# Altium integrated library ON Semi MOSFETs.IntLib: 1097 symbols (part 8 of 26)
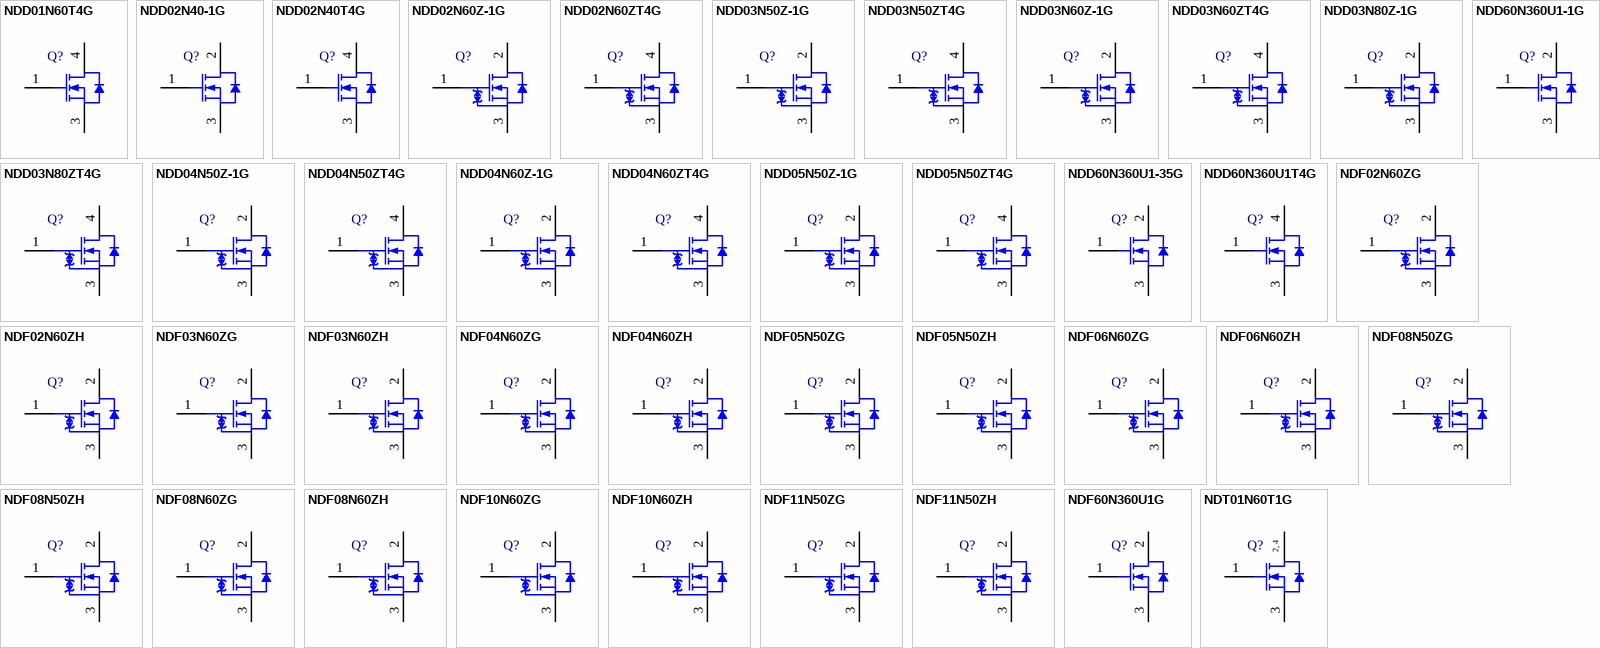
[diagram p38: symbols NDD01N60T4G to NDT01N60T1G]

## NDD03N50ZT4G
designator Q?
N-Channel Power MOSFET, 500 V, 3.3 Ohm, 3-Pin DPAK, Pb-Free, Tape and Reel; Manufacturer: On Semiconductor; PartNumber: NDD03N50ZT4G; Channel Polarity: N Channel; Ciss Typ (pF): 274; Configuration: Single; Coss Typ (pF): 38; Crss Typ (pF): 8; PD Max (W): 58; Qrr Typ (nC): 700; V(BR)DSS Min (V): 500; VGS Max (V): 30; VGS(th) Max (V): 4.5; DatasheetVersion: Rev. 1; PackageVersion: Rev. B, 06/2010; PackageReference: DPAK-3-369AA-01; PackageDescription: 3-Pin Flange Mount, Body 6.54 x 6.095 mm, Pitch 2.29 mm; Package Type: DPAK-3, IPAK-4; Packing: Tape and Reel; RoHS: Pb-Free; Mounting Technology: Surface Mount; ComponentLink1Description: Manufacturer URL; ComponentLink1URL: http://www.onsemi.com/; ComponentLink2Description: Datasheet; ComponentLink2URL: http://www.onsemi.cn/pub_link/Collateral/NDD03N50Z-D.PDF; ComponentLink3Description: Package Specification; ComponentLink3URL: http://www.onsemi.cn/pub_link/Collateral/369AA.PDF
footprint ONSC-DPAK-3-369AA-01_V (DPAK, 3-Leads, Body 6.54x6.095mm, Pitch 2.29mm)
pins: 1 G, 3 S, 4 D

## NDD03N60Z-1G
designator Q?
N-Channel Power MOSFET 600 V, 3.6 Ohm, 3-Pin IPAK, Pb-Free, Tube; Manufacturer: On Semiconductor; PartNumber: NDD03N60Z-1G; Channel Polarity: N Channel; Ciss Typ (pF): 312; Configuration: Single; Coss Typ (pF): 39; Crss Typ (pF): 8; PD Max (W): 61; Qrr Typ (nC): 900; V(BR)DSS Min (V): 600; VGS Max (V): 30; VGS(th) Max (V): 4.5; DatasheetVersion: Rev. 7; PackageVersion: Rev. C, 12/2010; PackageReference: IPAK-3-369D-01; PackageDescription: 3-Pin Flange Mount, Vertical Straight Lead, Body 6.54 x 2.285 mm, Pitch 2.29 mm; Package Type: DPAK-3, IPAK-4; Packing: Tube; RoHS: Pb-Free; Mounting Technology: Through Hole; Code_JEDEC: TO-251; ComponentLink1Description: Manufacturer URL; ComponentLink1URL: http://www.onsemi.com/; ComponentLink2Description: Datasheet; ComponentLink2URL: http://www.onsemi.cn/pub_link/Collateral/NDF03N60Z-D.PDF; ComponentLink3Description: Package Specification; ComponentLink3URL: http://www.onsemi.cn/pub_link/Collateral/369D.PDF
footprint ONSC-IPAK-3-369D-01 (FM, 3-Leads, Body 6.75x2.4mm, Pitch 2.29mm)
pins: 1 G, 2 D, 3 S

## NDD03N60ZT4G
designator Q?
N-Channel Power MOSFET 600 V, 3.6 Ohm, 3-Pin DPAK, Pb-Free, Tape and Reel; Manufacturer: On Semiconductor; PartNumber: NDD03N60ZT4G; Channel Polarity: N Channel; Ciss Typ (pF): 312; Configuration: Single; Coss Typ (pF): 39; Crss Typ (pF): 8; PD Max (W): 61; Qrr Typ (nC): 900; V(BR)DSS Min (V): 600; VGS Max (V): 30; VGS(th) Max (V): 4.5; DatasheetVersion: Rev. 7; PackageVersion: Rev. B, 06/2010; PackageReference: DPAK-3-369AA-01; PackageDescription: 3-Pin Flange Mount, Body 6.54 x 6.095 mm, Pitch 2.29 mm; Package Type: DPAK-3, IPAK-4; Packing: Tape and Reel; RoHS: Pb-Free; Mounting Technology: Surface Mount; ComponentLink1Description: Manufacturer URL; ComponentLink1URL: http://www.onsemi.com/; ComponentLink2Description: Datasheet; ComponentLink2URL: http://www.onsemi.cn/pub_link/Collateral/NDF03N60Z-D.PDF; ComponentLink3Description: Package Specification; ComponentLink3URL: http://www.onsemi.cn/pub_link/Collateral/369AA.PDF
footprint ONSC-DPAK-3-369AA-01_V (DPAK, 3-Leads, Body 6.54x6.095mm, Pitch 2.29mm)
pins: 1 G, 3 S, 4 D

## NDD03N80Z-1G
designator Q?
N-Channel Power MOSFET, 800 V, 4.5 Ohm, 3-Pin IPAK, Pb-Free, Tube; Manufacturer: On Semiconductor; PartNumber: NDD03N80Z-1G; Channel Polarity: N Channel; Ciss Typ (pF): 440; Configuration: Single; Coss Typ (pF): 52; Crss Typ (pF): 9; PD Max (W): 96; Qrr Typ (nC): 1300; V(BR)DSS Min (V): 800; VGS Max (V): 30; VGS(th) Max (V): 4.5; DatasheetVersion: Rev. 1; PackageVersion: Rev. C, 12/2010; PackageReference: IPAK-3-369D-01; PackageDescription: 3-Pin Flange Mount, Vertical Straight Lead, Body 6.54 x 2.285 mm, Pitch 2.29 mm; Package Type: DPAK-3, IPAK-4; Packing: Tube; RoHS: Pb-Free; Mounting Technology: Through Hole; Code_JEDEC: TO-251; ComponentLink1Description: Manufacturer URL; ComponentLink1URL: http://www.onsemi.com/; ComponentLink2Description: Datasheet; ComponentLink2URL: http://www.onsemi.cn/pub_link/Collateral/NDD03N80Z-D.PDF; ComponentLink3Description: Package Specification; ComponentLink3URL: http://www.onsemi.cn/pub_link/Collateral/369D.PDF
footprint ONSC-IPAK-3-369D-01 (FM, 3-Leads, Body 6.75x2.4mm, Pitch 2.29mm)
pins: 1 G, 2 D, 3 S

## NDD03N80ZT4G
designator Q?
N-Channel Power MOSFET, 800 V, 4.5 Ohm, 3-Pin DPAK, Pb-Free, Tape and Reel; Manufacturer: On Semiconductor; PartNumber: NDD03N80ZT4G; Channel Polarity: N Channel; Ciss Typ (pF): 440; Configuration: Single; Coss Typ (pF): 52; Crss Typ (pF): 9; PD Max (W): 96; Qrr Typ (nC): 1300; V(BR)DSS Min (V): 800; VGS Max (V): 30; VGS(th) Max (V): 4.5; DatasheetVersion: Rev. 1; PackageVersion: Rev. B, 06/2010; PackageReference: DPAK-3-369AA-01; PackageDescription: 3-Pin Flange Mount, Body 6.54 x 6.095 mm, Pitch 2.29 mm; Package Type: DPAK-3, IPAK-4; Packing: Tape and Reel; RoHS: Pb-Free; Mounting Technology: Surface Mount; ComponentLink1Description: Manufacturer URL; ComponentLink1URL: http://www.onsemi.com/; ComponentLink2Description: Datasheet; ComponentLink2URL: http://www.onsemi.cn/pub_link/Collateral/NDD03N80Z-D.PDF; ComponentLink3Description: Package Specification; ComponentLink3URL: http://www.onsemi.cn/pub_link/Collateral/369AA.PDF
footprint ONSC-DPAK-3-369AA-01_V (DPAK, 3-Leads, Body 6.54x6.095mm, Pitch 2.29mm)
pins: 1 G, 3 S, 4 D

## NDD04N50Z-1G
designator Q?
N-Channel Power MOSFET, 500 V, 2.7 Ohm, 3-Pin IPAK, Pb-Free, Tube; Manufacturer: On Semiconductor; PartNumber: NDD04N50Z-1G; Channel Polarity: N Channel; Ciss Typ (pF): 308; Configuration: Single; Coss Typ (pF): 43; Crss Typ (pF): 9; PD Max (W): 61; Qrr Typ (nC): 900; V(BR)DSS Min (V): 500; VGS Max (V): 30; VGS(th) Max (V): 4.5; DatasheetVersion: Rev. 1; PackageVersion: Rev. C, 12/2010; PackageReference: IPAK-3-369D-01; PackageDescription: 3-Pin Flange Mount, Vertical Straight Lead, Body 6.54 x 2.285 mm, Pitch 2.29 mm; Package Type: DPAK-3, IPAK-4; Packing: Tube; RoHS: Pb-Free; Mounting Technology: Through Hole; Code_JEDEC: TO-251; ComponentLink1Description: Manufacturer URL; ComponentLink1URL: http://www.onsemi.com/; ComponentLink2Description: Datasheet; ComponentLink2URL: http://www.onsemi.cn/pub_link/Collateral/NDD04N50Z-D.PDF; ComponentLink3Description: Package Specification; ComponentLink3URL: http://www.onsemi.cn/pub_link/Collateral/369D.PDF
footprint ONSC-IPAK-3-369D-01 (FM, 3-Leads, Body 6.75x2.4mm, Pitch 2.29mm)
pins: 1 G, 2 D, 3 S

## NDD04N50ZT4G
designator Q?
N-Channel Power MOSFET, 500 V, 2.7 Ohm, 3-Pin DPAK, Pb-Free, Tape and Reel; Manufacturer: On Semiconductor; PartNumber: NDD04N50ZT4G; Channel Polarity: N Channel; Ciss Typ (pF): 308; Configuration: Single; Coss Typ (pF): 43; Crss Typ (pF): 9; PD Max (W): 61; Qrr Typ (nC): 900; V(BR)DSS Min (V): 500; VGS Max (V): 30; VGS(th) Max (V): 4.5; DatasheetVersion: Rev. 1; PackageVersion: Rev. B, 06/2010; PackageReference: DPAK-3-369AA-01; PackageDescription: 3-Pin Flange Mount, Body 6.54 x 6.095 mm, Pitch 2.29 mm; Package Type: DPAK-3, IPAK-4; Packing: Tape and Reel; RoHS: Pb-Free; Mounting Technology: Surface Mount; ComponentLink1Description: Manufacturer URL; ComponentLink1URL: http://www.onsemi.com/; ComponentLink2Description: Datasheet; ComponentLink2URL: http://www.onsemi.cn/pub_link/Collateral/NDD04N50Z-D.PDF; ComponentLink3Description: Package Specification; ComponentLink3URL: http://www.onsemi.cn/pub_link/Collateral/369AA.PDF
footprint ONSC-DPAK-3-369AA-01_V (DPAK, 3-Leads, Body 6.54x6.095mm, Pitch 2.29mm)
pins: 1 G, 3 S, 4 D

## NDD04N60Z-1G
designator Q?
N-Channel Power MOSFET 600 V, 2.0 Ohm, 3-Pin IPAK, Pb-Free, Tube; Manufacturer: On Semiconductor; PartNumber: NDD04N60Z-1G; Channel Polarity: N Channel; Ciss Typ (pF): 535; Configuration: Single; Coss Typ (pF): 62; Crss Typ (pF): 14; PD Max (W): 83; Qrr Typ (nC): 1300; V(BR)DSS Min (V): 600; VGS Max (V): 30; VGS(th) Max (V): 4.5; DatasheetVersion: Rev. 8; PackageVersion: Rev. C, 12/2010; PackageReference: IPAK-3-369D-01; PackageDescription: 3-Pin Flange Mount, Vertical Straight Lead, Body 6.54 x 2.285 mm, Pitch 2.29 mm; Package Type: DPAK-3, IPAK-4; Packing: Tube; RoHS: Pb-Free; Mounting Technology: Through Hole; Code_JEDEC: TO-251; ComponentLink1Description: Manufacturer URL; ComponentLink1URL: http://www.onsemi.com/; ComponentLink2Description: Datasheet; ComponentLink2URL: http://www.onsemi.cn/pub_link/Collateral/NDF04N60Z-D.PDF; ComponentLink3Description: Package Specification; ComponentLink3URL: http://www.onsemi.cn/pub_link/Collateral/369D.PDF
footprint ONSC-IPAK-3-369D-01 (FM, 3-Leads, Body 6.75x2.4mm, Pitch 2.29mm)
pins: 1 G, 2 D, 3 S

## NDD04N60ZT4G
designator Q?
N-Channel Power MOSFET 600 V, 2.0 Ohm, 3-Pin DPAK, Pb-Free, Tape and Reel; Manufacturer: On Semiconductor; PartNumber: NDD04N60ZT4G; Channel Polarity: N Channel; Ciss Typ (pF): 535; Configuration: Single; Coss Typ (pF): 62; Crss Typ (pF): 14; PD Max (W): 83; Qrr Typ (nC): 1300; V(BR)DSS Min (V): 600; VGS Max (V): 30; VGS(th) Max (V): 4.5; DatasheetVersion: Rev. 8; PackageVersion: Rev. B, 06/2010; PackageReference: DPAK-3-369AA-01; PackageDescription: 3-Pin Flange Mount, Body 6.54 x 6.095 mm, Pitch 2.29 mm; Package Type: DPAK-3, IPAK-4; Packing: Tape and Reel; RoHS: Pb-Free; Mounting Technology: Surface Mount; ComponentLink1Description: Manufacturer URL; ComponentLink1URL: http://www.onsemi.com/; ComponentLink2Description: Datasheet; ComponentLink2URL: http://www.onsemi.cn/pub_link/Collateral/NDF04N60Z-D.PDF; ComponentLink3Description: Package Specification; ComponentLink3URL: http://www.onsemi.cn/pub_link/Collateral/369AA.PDF
footprint ONSC-DPAK-3-369AA-01_V (DPAK, 3-Leads, Body 6.54x6.095mm, Pitch 2.29mm)
pins: 1 G, 3 S, 4 D

## NDD05N50Z-1G
designator Q?
N-Channel Power MOSFET, 500 V, 1.5 Ohm, 3-Pin IPAK, Pb-Free, Tube; Manufacturer: On Semiconductor; PartNumber: NDD05N50Z-1G; Channel Polarity: N Channel; Ciss Typ (pF): 530; Configuration: Single; Coss Typ (pF): 68; Crss Typ (pF): 15; PD Max (W): 83; Qrr Typ (nC): 1250; V(BR)DSS Min (V): 500; VGS Max (V): 30; VGS(th) Max (V): 4.5; DatasheetVersion: Rev. 7; PackageVersion: Rev. C, 12/2010; PackageReference: IPAK-3-369D-01; PackageDescription: 3-Pin Flange Mount, Vertical Straight Lead, Body 6.54 x 2.285 mm, Pitch 2.29 mm; Package Type: DPAK-3, IPAK-4; Packing: Tube; RoHS: Pb-Free; Mounting Technology: Through Hole; Code_JEDEC: TO-251; ComponentLink1Description: Manufacturer URL; ComponentLink1URL: http://www.onsemi.com/; ComponentLink2Description: Datasheet; ComponentLink2URL: http://www.onsemi.cn/pub_link/Collateral/NDF05N50Z-D.PDF; ComponentLink3Description: Package Specification; ComponentLink3URL: http://www.onsemi.cn/pub_link/Collateral/369D.PDF
footprint ONSC-IPAK-3-369D-01 (FM, 3-Leads, Body 6.75x2.4mm, Pitch 2.29mm)
pins: 1 G, 2 D, 3 S

## NDD05N50ZT4G
designator Q?
N-Channel Power MOSFET, 500 V, 1.5 Ohm, 3-Pin DPAK, Pb-Free, Tape and Reel; Manufacturer: On Semiconductor; PartNumber: NDD05N50ZT4G; Channel Polarity: N Channel; Ciss Typ (pF): 530; Configuration: Single; Coss Typ (pF): 68; Crss Typ (pF): 15; PD Max (W): 83; Qrr Typ (nC): 1250; V(BR)DSS Min (V): 500; VGS Max (V): 30; VGS(th) Max (V): 4.5; DatasheetVersion: Rev. 7; PackageVersion: Rev. B, 06/2010; PackageReference: DPAK-3-369AA-01; PackageDescription: 3-Pin Flange Mount, Body 6.54 x 6.095 mm, Pitch 2.29 mm; Package Type: DPAK-3, IPAK-4; Packing: Tape and Reel; RoHS: Pb-Free; Mounting Technology: Surface Mount; ComponentLink1Description: Manufacturer URL; ComponentLink1URL: http://www.onsemi.com/; ComponentLink2Description: Datasheet; ComponentLink2URL: http://www.onsemi.cn/pub_link/Collateral/NDF05N50Z-D.PDF; ComponentLink3Description: Package Specification; ComponentLink3URL: http://www.onsemi.cn/pub_link/Collateral/369AA.PDF
footprint ONSC-DPAK-3-369AA-01_V (DPAK, 3-Leads, Body 6.54x6.095mm, Pitch 2.29mm)
pins: 1 G, 3 S, 4 D

## NDD60N360U1-1G
designator Q?
N-Channel Power MOSFET, 600 V, 360 mOhm, 3-Pin IPAK, Pb-Free, Tube; Manufacturer: On Semiconductor; PartNumber: NDD60N360U1-1G; Channel Polarity: N Channel; Ciss Typ (pF): 790; Configuration: Single; Coss Typ (pF): 47; Crss Typ (pF): 3; PD Max (W): 114; Qrr Typ (nC): 3600; V(BR)DSS Min (V): 600; VGS Max (V): 25; VGS(th) Max (V): 4; DatasheetVersion: Rev. 0; PackageVersion: Rev. C, 12/2010; PackageReference: IPAK-3-369D-01; PackageDescription: 3-Pin Flange Mount, Vertical Straight Lead, Body 6.54 x 2.285 mm, Pitch 2.29 mm; Supplier 1: Newark; Supplier Part Number 1: 97W6245; Supplier 2: Mouser; Supplier Part Number 2: 863-NDD60N360U1-1G; Package Type: DPAK-3, IPAK-3, IPAK-4; Packing: Tube; RoHS: Pb-Free; Mounting Technology: Through Hole; Code_JEDEC: TO-251; ComponentLink1Description: Manufacturer URL; ComponentLink1URL: http://www.onsemi.com/; ComponentLink2Description: Datasheet; ComponentLink2URL: http://www.onsemi.com/pub_link/Collateral/NDF60N360U1-D.PDF; ComponentLink3Description: Package Specification; ComponentLink3URL: http://www.onsemi.cn/pub_link/Collateral/369D.PDF
footprint ONSC-IPAK-3-369D-01 (FM, 3-Leads, Body 6.75x2.4mm, Pitch 2.29mm)
pins: 1 G, 2 D, 3 S

## NDD60N360U1-35G
designator Q?
N-Channel Power MOSFET, 600 V, 360 mOhm, 3-Pin IPAK, Pb-Free, Tube; Manufacturer: On Semiconductor; PartNumber: NDD60N360U1-35G; Channel Polarity: N Channel; Ciss Typ (pF): 790; Configuration: Single; Coss Typ (pF): 47; Crss Typ (pF): 3; PD Max (W): 114; Qrr Typ (nC): 3600; V(BR)DSS Min (V): 600; VGS Max (V): 25; VGS(th) Max (V): 4; DatasheetVersion: Rev. 0; PackageVersion: Rev. B, 04/2013; PackageReference: IPAK-3-369AD; PackageDescription: 3-Pin Flange Mount, Vertical Straight Lead, Body 6.54 x 2.285 mm, Pitch 2.28 mm; Supplier 1: Newark; Supplier Part Number 1: 97W6246; Supplier 2: Mouser; Supplier Part Number 2: 863-NDD60N360U1-35G; Package Type: DPAK-3, IPAK-3, IPAK-4; Packing: Tube; RoHS: Pb-Free; Mounting Technology: Through Hole; ComponentLink1Description: Manufacturer URL; ComponentLink1URL: http://www.onsemi.com/; ComponentLink2Description: Datasheet; ComponentLink2URL: http://www.onsemi.com/pub_link/Collateral/NDF60N360U1-D.PDF; ComponentLink3Description: Package Specification; ComponentLink3URL: http://www.onsemi.cn/pub_link/Collateral/369AD.PDF
footprint ONSC-IPAK-3-369AD (FM, 3-Leads, Body 6.75x2.4mm, Pitch 2.28mm)
pins: 1 G, 2 D, 3 S

## NDD60N360U1T4G
designator Q?
N-Channel Power MOSFET, 600 V, 360 mOhm, 3-Pin DPAK, Pb-Free, Tape and Reel; Manufacturer: On Semiconductor; PartNumber: NDD60N360U1T4G; Channel Polarity: N Channel; Ciss Typ (pF): 790; Configuration: Single; Coss Typ (pF): 47; Crss Typ (pF): 3; PD Max (W): 114; Qrr Typ (nC): 3600; V(BR)DSS Min (V): 600; VGS Max (V): 25; VGS(th) Max (V): 4; DatasheetVersion: Rev. 0; PackageVersion: Rev. E, 02/2014; PackageReference: DPAK-3-369C-01; PackageDescription: 3-Pin Flange Mount, Body 6.54 x 6.095 mm, Pitch 2.29 mm; Supplier 1: Newark; Supplier Part Number 1: 97W6247; Supplier 2: Mouser; Supplier Part Number 2: 863-NDD60N360U1T4G; Package Type: DPAK-3, IPAK-3, IPAK-4; Packing: Tape and Reel; RoHS: Pb-Free; Mounting Technology: Surface Mount; ComponentLink1Description: Manufacturer URL; ComponentLink1URL: http://www.onsemi.com/; ComponentLink2Description: Datasheet; ComponentLink2URL: http://www.onsemi.com/pub_link/Collateral/NDF60N360U1-D.PDF; ComponentLink3Description: Package Specification; ComponentLink3URL: http://www.onsemi.cn/pub_link/Collateral/369C.PDF
footprint ONSC-DPAK-3-369C-01_V (DPAK, 3-Leads, Body 6.54x6.095mm, Pitch 2.29mm)
pins: 1 G, 3 S, 4 D

## NDF02N60ZG
designator Q?
N-Channel Power MOSFET 600 V, 4.8 Ohm, 3-Pin TO-220, Pb-Free, Tube; Manufacturer: On Semiconductor; PartNumber: NDF02N60ZG; Channel Polarity: N Channel; Ciss Typ (pF): 274; Configuration: Single; Coss Typ (pF): 34; Crss Typ (pF): 7; PD Max (W): 24; Qrr Typ (nC): 700; V(BR)DSS Min (V): 600; VGS Max (V): 30; VGS(th) Max (V): 4.5; DatasheetVersion: Rev. 7; PackageVersion: Rev. K, 02/2009; PackageReference: TO-220-3-221D-03; PackageDescription: 3-Pin Flange Mount, Vertical Straight Lead, Body 10.295 x 4.7 mm, Pitch 2.54 mm; Package Type: TO-220 FULLPAK-3; Packing: Tube; RoHS: Pb-Free; Mounting Technology: Through Hole; ComponentLink1Description: Manufacturer URL; ComponentLink1URL: http://www.onsemi.com/; ComponentLink2Description: Datasheet; ComponentLink2URL: http://www.onsemi.cn/pub_link/Collateral/NDF02N60Z-D.PDF; ComponentLink3Description: Package Specification; ComponentLink3URL: http://www.onsemi.com/pub_link/Collateral/221D-03.PDF
footprint ONSC-TO-220-3-221D-03 (FM, 3-Leads, Body 10.65x4.9mm, Pitch 2.54mm)
pins: 1 G, 2 D, 3 S

## NDF02N60ZH
designator Q?
N-Channel Power MOSFET 600 V, 4.8 Ohm, 3-Pin TO-220, Pb-Free, Tube; Manufacturer: On Semiconductor; PartNumber: NDF02N60ZH; Channel Polarity: N Channel; Ciss Typ (pF): 274; Configuration: Single; Coss Typ (pF): 34; Crss Typ (pF): 7; PD Max (W): 24; Qrr Typ (nC): 700; V(BR)DSS Min (V): 600; VGS Max (V): 30; VGS(th) Max (V): 4.5; DatasheetVersion: Rev. 7; PackageVersion: Rev. E, 04/2013; PackageReference: TO-220-3-221AH; PackageDescription: 3-Pin Flange Mount, Vertical Straight Lead, Body 10 x 4.5 mm, Pitch 2.54 mm; Package Type: TO-220 FULLPAK-3; Packing: Tube; RoHS: Pb-Free; Mounting Technology: Through Hole; ComponentLink1Description: Manufacturer URL; ComponentLink1URL: http://www.onsemi.com/; ComponentLink2Description: Datasheet; ComponentLink2URL: http://www.onsemi.cn/pub_link/Collateral/NDF02N60Z-D.PDF; ComponentLink3Description: Package Specification; ComponentLink3URL: http://www.onsemi.com/pub_link/Collateral/221AH.PDF
footprint ONSC-TO-220-3-221AH (FM, 3-Leads, Body 10.3x4.7mm, Pitch 2.54mm)
pins: 1 G, 2 D, 3 S

## NDF03N60ZG
designator Q?
N-Channel Power MOSFET 600 V, 3.6 Ohm, 3-Pin TO-220, Pb-Free, Tube; Manufacturer: On Semiconductor; PartNumber: NDF03N60ZG; Channel Polarity: N Channel; Ciss Typ (pF): 312; Configuration: Single; Coss Typ (pF): 39; Crss Typ (pF): 8; PD Max (W): 27; Qrr Typ (nC): 900; V(BR)DSS Min (V): 600; VGS Max (V): 30; VGS(th) Max (V): 4.5; DatasheetVersion: Rev. 7; PackageVersion: Rev. K, 02/2009; PackageReference: TO-220-3-221D-03; PackageDescription: 3-Pin Flange Mount, Vertical Straight Lead, Body 10.295 x 4.7 mm, Pitch 2.54 mm; Package Type: TO-220 FULLPAK-3; Packing: Tube; RoHS: Pb-Free; Mounting Technology: Through Hole; ComponentLink1Description: Manufacturer URL; ComponentLink1URL: http://www.onsemi.com/; ComponentLink2Description: Datasheet; ComponentLink2URL: http://www.onsemi.cn/pub_link/Collateral/NDF03N60Z-D.PDF; ComponentLink3Description: Package Specification; ComponentLink3URL: http://www.onsemi.com/pub_link/Collateral/221D-03.PDF
footprint ONSC-TO-220-3-221D-03 (FM, 3-Leads, Body 10.65x4.9mm, Pitch 2.54mm)
pins: 1 G, 2 D, 3 S

## NDF03N60ZH
designator Q?
N-Channel Power MOSFET 600 V, 3.6 Ohm, 3-Pin TO-220, Pb-Free, Tube; Manufacturer: On Semiconductor; PartNumber: NDF03N60ZH; Channel Polarity: N Channel; Ciss Typ (pF): 312; Configuration: Single; Coss Typ (pF): 39; Crss Typ (pF): 8; PD Max (W): 27; Qrr Typ (nC): 900; V(BR)DSS Min (V): 600; VGS Max (V): 30; VGS(th) Max (V): 4.5; DatasheetVersion: Rev. 7; PackageVersion: Rev. E, 04/2013; PackageReference: TO-220-3-221AH; PackageDescription: 3-Pin Flange Mount, Vertical Straight Lead, Body 10 x 4.5 mm, Pitch 2.54 mm; Package Type: TO-220 FULLPAK-3; Packing: Tube; RoHS: Pb-Free; Mounting Technology: Through Hole; ComponentLink1Description: Manufacturer URL; ComponentLink1URL: http://www.onsemi.com/; ComponentLink2Description: Datasheet; ComponentLink2URL: http://www.onsemi.cn/pub_link/Collateral/NDF03N60Z-D.PDF; ComponentLink3Description: Package Specification; ComponentLink3URL: http://www.onsemi.com/pub_link/Collateral/221AH.PDF
footprint ONSC-TO-220-3-221AH (FM, 3-Leads, Body 10.3x4.7mm, Pitch 2.54mm)
pins: 1 G, 2 D, 3 S

## NDF04N60ZG
designator Q?
N-Channel Power MOSFET 600 V, 2 Ohm, 3-Pin TO-220, Pb-Free, Tube; Manufacturer: On Semiconductor; PartNumber: NDF04N60ZG; Channel Polarity: N Channel; Ciss Typ (pF): 535; Configuration: Single; Coss Typ (pF): 62; Crss Typ (pF): 14; PD Max (W): 30; Qrr Typ (nC): 1300; V(BR)DSS Min (V): 600; VGS(th) Max (V): 4.5; DatasheetVersion: Rev. 8; PackageVersion: Rev. K, 02/2009; PackageReference: TO-220-3-221D-03; PackageDescription: 3-Pin Flange Mount, Vertical Straight Lead, Body 10.295 x 4.7 mm, Pitch 2.54 mm; Package Type: TO-220 FULLPAK-3; Packing: Tube; RoHS: Pb-Free; VGS Max (V): 30; Mounting Technology: Through Hole; ComponentLink1Description: Manufacturer URL; ComponentLink1URL: http://www.onsemi.com/; ComponentLink2Description: Datasheet; ComponentLink2URL: http://www.onsemi.cn/pub_link/Collateral/NDF04N60Z-D.PDF; ComponentLink3Description: Package Specification; ComponentLink3URL: http://www.onsemi.com/pub_link/Collateral/221D-03.PDF
footprint ONSC-TO-220-3-221D-03 (FM, 3-Leads, Body 10.65x4.9mm, Pitch 2.54mm)
pins: 1 G, 2 D, 3 S

## NDF04N60ZH
designator Q?
N-Channel Power MOSFET 600 V, 2 Ohm, 3-Pin TO-220, Pb-Free, Tube; Manufacturer: On Semiconductor; PartNumber: NDF04N60ZH; Channel Polarity: N Channel; Ciss Typ (pF): 535; Configuration: Single; Coss Typ (pF): 62; Crss Typ (pF): 14; PD Max (W): 30; Qrr Typ (nC): 1300; V(BR)DSS Min (V): 600; VGS(th) Max (V): 4.5; DatasheetVersion: Rev. 8; PackageVersion: Rev. E, 04/2013; PackageReference: TO-220-3-221AH; PackageDescription: 3-Pin Flange Mount, Vertical Straight Lead, Body 10 x 4.5 mm, Pitch 2.54 mm; Package Type: TO-220 FULLPAK-3; Packing: Tube; RoHS: Pb-Free; VGS Max (V): 30; Mounting Technology: Through Hole; ComponentLink1Description: Manufacturer URL; ComponentLink1URL: http://www.onsemi.com/; ComponentLink2Description: Datasheet; ComponentLink2URL: http://www.onsemi.cn/pub_link/Collateral/NDF04N60Z-D.PDF; ComponentLink3Description: Package Specification; ComponentLink3URL: http://www.onsemi.com/pub_link/Collateral/221AH.PDF
footprint ONSC-TO-220-3-221AH (FM, 3-Leads, Body 10.3x4.7mm, Pitch 2.54mm)
pins: 1 G, 2 D, 3 S

## NDF05N50ZG
designator Q?
N-Channel Power MOSFET, 500 V, 1.5 Ohm, 3-Pin TO-220, Pb-Free, Tube; Manufacturer: On Semiconductor; PartNumber: NDF05N50ZG; Channel Polarity: N Channel; Ciss Typ (pF): 530; Configuration: Single; Coss Typ (pF): 68; Crss Typ (pF): 15; PD Max (W): 30; Qrr Typ (nC): 1250; V(BR)DSS Min (V): 500; VGS(th) Max (V): 4.5; DatasheetVersion: Rev. 7; PackageVersion: Rev. K, 02/2009; PackageReference: TO-220-3-221D-03; PackageDescription: 3-Pin Flange Mount, Vertical Straight Lead, Body 10.295 x 4.7 mm, Pitch 2.54 mm; Package Type: TO-220 FULLPAK-3; Packing: Tube; RoHS: Pb-Free; VGS Max (V): 30; Mounting Technology: Through Hole; ComponentLink1Description: Manufacturer URL; ComponentLink1URL: http://www.onsemi.com/; ComponentLink2Description: Datasheet; ComponentLink2URL: http://www.onsemi.cn/pub_link/Collateral/NDF05N50Z-D.PDF; ComponentLink3Description: Package Specification; ComponentLink3URL: http://www.onsemi.com/pub_link/Collateral/221D-03.PDF
footprint ONSC-TO-220-3-221D-03 (FM, 3-Leads, Body 10.65x4.9mm, Pitch 2.54mm)
pins: 1 G, 2 D, 3 S

## NDF05N50ZH
designator Q?
N-Channel Power MOSFET, 500 V, 1.5 Ohm, 3-Pin TO-220, Pb-Free, Tube; Manufacturer: On Semiconductor; PartNumber: NDF05N50ZH; Channel Polarity: N Channel; Ciss Typ (pF): 530; Configuration: Single; Coss Typ (pF): 68; Crss Typ (pF): 15; PD Max (W): 30; Qrr Typ (nC): 1250; V(BR)DSS Min (V): 500; VGS(th) Max (V): 4.5; DatasheetVersion: Rev. 7; PackageVersion: Rev. E, 04/2013; PackageReference: TO-220-3-221AH; PackageDescription: 3-Pin Flange Mount, Vertical Straight Lead, Body 10 x 4.5 mm, Pitch 2.54 mm; Package Type: TO-220 FULLPAK-3; Packing: Tube; RoHS: Pb-Free; VGS Max (V): 30; Mounting Technology: Through Hole; ComponentLink1Description: Manufacturer URL; ComponentLink1URL: http://www.onsemi.com/; ComponentLink2Description: Datasheet; ComponentLink2URL: http://www.onsemi.cn/pub_link/Collateral/NDF05N50Z-D.PDF; ComponentLink3Description: Package Specification; ComponentLink3URL: http://www.onsemi.com/pub_link/Collateral/221AH.PDF
footprint ONSC-TO-220-3-221AH (FM, 3-Leads, Body 10.3x4.7mm, Pitch 2.54mm)
pins: 1 G, 2 D, 3 S

## NDF06N60ZG
designator Q?
N-Channel Power MOSFET 600 V, 1.2 Ohm, 3-Pin TO-220, Pb-Free, Tube; Manufacturer: On Semiconductor; PartNumber: NDF06N60ZG; Channel Polarity: N Channel; Ciss Typ (pF): 923; Configuration: Single; Coss Typ (pF): 106; Crss Typ (pF): 23; PD Max (W): 35; Qrr Typ (nC): 2000; V(BR)DSS Min (V): 600; VGS Max (V): 30; VGS(th) Max (V): 4.5; DatasheetVersion: Rev. 6; PackageVersion: Rev. K, 02/2009; PackageReference: TO-220-3-221D-03; PackageDescription: 3-Pin Flange Mount, Vertical Straight Lead, Body 10.295 x 4.7 mm, Pitch 2.54 mm; Package Type: TO-220 FULLPAK-3; Packing: Tube; RoHS: Pb-Free; Mounting Technology: Through Hole; ComponentLink1Description: Manufacturer URL; ComponentLink1URL: http://www.onsemi.com/; ComponentLink2Description: Datasheet; ComponentLink2URL: http://www.onsemi.cn/pub_link/Collateral/NDF06N60Z-D.PDF; ComponentLink3Description: Package Specification; ComponentLink3URL: http://www.onsemi.com/pub_link/Collateral/221D-03.PDF
footprint ONSC-TO-220-3-221D-03 (FM, 3-Leads, Body 10.65x4.9mm, Pitch 2.54mm)
pins: 1 G, 2 D, 3 S

## NDF06N60ZH
designator Q?
N-Channel Power MOSFET 600 V, 1.2 Ohm, 3-Pin TO-220, Pb-Free, Tube; Manufacturer: On Semiconductor; PartNumber: NDF06N60ZH; Channel Polarity: N Channel; Ciss Typ (pF): 923; Configuration: Single; Coss Typ (pF): 106; Crss Typ (pF): 23; PD Max (W): 35; Qrr Typ (nC): 2000; V(BR)DSS Min (V): 600; VGS Max (V): 30; VGS(th) Max (V): 4.5; DatasheetVersion: Rev. 6; PackageVersion: Rev. E, 04/2013; PackageReference: TO-220-3-221AH; PackageDescription: 3-Pin Flange Mount, Vertical Straight Lead, Body 10 x 4.5 mm, Pitch 2.54 mm; Package Type: TO-220 FULLPAK-3; Packing: Tube; RoHS: Pb-Free; Mounting Technology: Through Hole; ComponentLink1Description: Manufacturer URL; ComponentLink1URL: http://www.onsemi.com/; ComponentLink2Description: Datasheet; ComponentLink2URL: http://www.onsemi.cn/pub_link/Collateral/NDF06N60Z-D.PDF; ComponentLink3Description: Package Specification; ComponentLink3URL: http://www.onsemi.com/pub_link/Collateral/221AH.PDF
footprint ONSC-TO-220-3-221AH (FM, 3-Leads, Body 10.3x4.7mm, Pitch 2.54mm)
pins: 1 G, 2 D, 3 S

## NDF08N50ZG
designator Q?
N-Channel Power MOSFET 500 V, 0.85 Ohm, 3-Pin TO-220, Pb-Free, Tube; Manufacturer: On Semiconductor; PartNumber: NDF08N50ZG; Channel Polarity: N Channel; Ciss Typ (pF): 912; Configuration: Single; Coss Typ (pF): 120; Crss Typ (pF): 27; PD Max (W): 35; Qrr Typ (nC): 1850; V(BR)DSS Min (V): 500; VGS Max (V): 30; VGS(th) Max (V): 4.5; DatasheetVersion: Rev. 5; PackageVersion: Rev. K, 02/2009; PackageReference: TO-220-3-221D-03; PackageDescription: 3-Pin Flange Mount, Vertical Straight Lead, Body 10.295 x 4.7 mm, Pitch 2.54 mm; Package Type: TO-220 FULLPAK-3; Packing: Tube; RoHS: Pb-Free; Mounting Technology: Through Hole; ComponentLink1Description: Manufacturer URL; ComponentLink1URL: http://www.onsemi.com/; ComponentLink2Description: Datasheet; ComponentLink2URL: http://www.onsemi.cn/pub_link/Collateral/NDF08N50Z-D.PDF; ComponentLink3Description: Package Specification; ComponentLink3URL: http://www.onsemi.com/pub_link/Collateral/221D-03.PDF
footprint ONSC-TO-220-3-221D-03 (FM, 3-Leads, Body 10.65x4.9mm, Pitch 2.54mm)
pins: 1 G, 2 D, 3 S

## NDF08N50ZH
designator Q?
N-Channel Power MOSFET 500 V, 0.85 Ohm, 3-Pin TO-220, Pb-Free, Tube; Manufacturer: On Semiconductor; PartNumber: NDF08N50ZH; Channel Polarity: N Channel; Ciss Typ (pF): 912; Configuration: Single; Coss Typ (pF): 120; Crss Typ (pF): 27; PD Max (W): 35; Qrr Typ (nC): 1850; V(BR)DSS Min (V): 500; VGS Max (V): 30; VGS(th) Max (V): 4.5; DatasheetVersion: Rev. 5; PackageVersion: Rev. E, 04/2013; PackageReference: TO-220-3-221AH; PackageDescription: 3-Pin Flange Mount, Vertical Straight Lead, Body 10 x 4.5 mm, Pitch 2.54 mm; Package Type: TO-220 FULLPAK-3; Packing: Tube; RoHS: Pb-Free; Mounting Technology: Through Hole; ComponentLink1Description: Manufacturer URL; ComponentLink1URL: http://www.onsemi.com/; ComponentLink2Description: Datasheet; ComponentLink2URL: http://www.onsemi.cn/pub_link/Collateral/NDF08N50Z-D.PDF; ComponentLink3Description: Package Specification; ComponentLink3URL: http://www.onsemi.com/pub_link/Collateral/221AH.PDF
footprint ONSC-TO-220-3-221AH (FM, 3-Leads, Body 10.3x4.7mm, Pitch 2.54mm)
pins: 1 G, 2 D, 3 S

## NDF08N60ZG
designator Q?
N-Channel Power MOSFET 600 V, 0.95 Ohm, 3-Pin TO-220, Pb-Free, Tube; Manufacturer: On Semiconductor; PartNumber: NDF08N60ZG; Channel Polarity: N Channel; Ciss Typ (pF): 1140; Configuration: Single; Coss Typ (pF): 129; Crss Typ (pF): 30; PD Max (W): 36; Qrr Typ (nC): 2200; V(BR)DSS Min (V): 600; VGS(th) Max (V): 4.5; DatasheetVersion: Rev. 3; PackageVersion: Rev. K, 02/2009; PackageReference: TO-220-3-221D-03; PackageDescription: 3-Pin Flange Mount, Vertical Straight Lead, Body 10.295 x 4.7 mm, Pitch 2.54 mm; Package Type: TO-220 FULLPAK-3; Packing: Tube; RoHS: Pb-Free; VGS Max (V): 30; Mounting Technology: Through Hole; ComponentLink1Description: Manufacturer URL; ComponentLink1URL: http://www.onsemi.com/; ComponentLink2Description: Datasheet; ComponentLink2URL: http://www.onsemi.cn/pub_link/Collateral/NDF08N60Z-D.PDF; ComponentLink3Description: Package Specification; ComponentLink3URL: http://www.onsemi.com/pub_link/Collateral/221D-03.PDF
footprint ONSC-TO-220-3-221D-03 (FM, 3-Leads, Body 10.65x4.9mm, Pitch 2.54mm)
pins: 1 G, 2 D, 3 S

## NDF08N60ZH
designator Q?
N-Channel Power MOSFET 600 V, 0.95 Ohm, 3-Pin TO-220, Pb-Free, Tube; Manufacturer: On Semiconductor; PartNumber: NDF08N60ZH; Channel Polarity: N Channel; Ciss Typ (pF): 1140; Configuration: Single; Coss Typ (pF): 129; Crss Typ (pF): 30; PD Max (W): 36; Qrr Typ (nC): 2200; V(BR)DSS Min (V): 600; VGS(th) Max (V): 4.5; DatasheetVersion: Rev. 3; PackageVersion: Rev. E, 04/2013; PackageReference: TO-220-3-221AH; PackageDescription: 3-Pin Flange Mount, Vertical Straight Lead, Body 10 x 4.5 mm, Pitch 2.54 mm; Package Type: TO-220 FULLPAK-3; Packing: Tube; RoHS: Pb-Free; VGS Max (V): 30; Mounting Technology: Through Hole; ComponentLink1Description: Manufacturer URL; ComponentLink1URL: http://www.onsemi.com/; ComponentLink2Description: Datasheet; ComponentLink2URL: http://www.onsemi.cn/pub_link/Collateral/NDF08N60Z-D.PDF; ComponentLink3Description: Package Specification; ComponentLink3URL: http://www.onsemi.com/pub_link/Collateral/221AH.PDF
footprint ONSC-TO-220-3-221AH (FM, 3-Leads, Body 10.3x4.7mm, Pitch 2.54mm)
pins: 1 G, 2 D, 3 S

## NDF10N60ZG
designator Q?
N-Channel Power MOSFET 600 V, 0.75 Ohm, 3-Pin TO-220, Pb-Free, Tube; Manufacturer: On Semiconductor; PartNumber: NDF10N60ZG; Channel Polarity: N Channel; Ciss Typ (pF): 1373; Configuration: Single; Coss Typ (pF): 150; Crss Typ (pF): 35; PD Max (W): 39; Qrr Typ (nC): 3000; V(BR)DSS Min (V): 600; VGS Max (V): 30; VGS(th) Max (V): 4.5; DatasheetVersion: Rev. 12; PackageVersion: Rev. K, 02/2009; PackageReference: TO-220-3-221D-03; PackageDescription: 3-Pin Flange Mount, Vertical Straight Lead, Body 10.295 x 4.7 mm, Pitch 2.54 mm; Package Type: TO-220 FULLPAK-3; Packing: Tube; RoHS: Pb-Free; Mounting Technology: Through Hole; ComponentLink1Description: Manufacturer URL; ComponentLink1URL: http://www.onsemi.com/; ComponentLink2Description: Datasheet; ComponentLink2URL: http://www.onsemi.cn/pub_link/Collateral/NDF10N60Z-D.PDF; ComponentLink3Description: Package Specification; ComponentLink3URL: http://www.onsemi.com/pub_link/Collateral/221D-03.PDF
footprint ONSC-TO-220-3-221D-03 (FM, 3-Leads, Body 10.65x4.9mm, Pitch 2.54mm)
pins: 1 G, 2 D, 3 S

## NDF10N60ZH
designator Q?
N-Channel Power MOSFET 600 V, 0.75 Ohm, 3-Pin TO-220, Pb-Free, Tube; Manufacturer: On Semiconductor; PartNumber: NDF10N60ZH; Channel Polarity: N Channel; Ciss Typ (pF): 1373; Configuration: Single; Coss Typ (pF): 150; Crss Typ (pF): 35; PD Max (W): 39; Qrr Typ (nC): 3000; V(BR)DSS Min (V): 600; VGS Max (V): 30; VGS(th) Max (V): 4.5; DatasheetVersion: Rev. 12; PackageVersion: Rev. E, 04/2013; PackageReference: TO-220-3-221AH; PackageDescription: 3-Pin Flange Mount, Vertical Straight Lead, Body 10 x 4.5 mm, Pitch 2.54 mm; Package Type: TO-220 FULLPAK-3; Packing: Tube; RoHS: Pb-Free; Mounting Technology: Through Hole; ComponentLink1Description: Manufacturer URL; ComponentLink1URL: http://www.onsemi.com/; ComponentLink2Description: Datasheet; ComponentLink2URL: http://www.onsemi.cn/pub_link/Collateral/NDF10N60Z-D.PDF; ComponentLink3Description: Package Specification; ComponentLink3URL: http://www.onsemi.com/pub_link/Collateral/221AH.PDF
footprint ONSC-TO-220-3-221AH (FM, 3-Leads, Body 10.3x4.7mm, Pitch 2.54mm)
pins: 1 G, 2 D, 3 S

## NDF11N50ZG
designator Q?
N-Channel Power MOSFET 500 V, 0.52 Ohm, 3-Pin TO-220, Pb-Free, Tube; Manufacturer: On Semiconductor; PartNumber: NDF11N50ZG; Channel Polarity: N Channel; Ciss Typ (pF): 1375; Configuration: Single; Coss Typ (pF): 166; Crss Typ (pF): 40; PD Max (W): 39; Qrr Typ (nC): 2500; V(BR)DSS Min (V): 500; VGS Max (V): 30; VGS(th) Max (V): 4.5; DatasheetVersion: Rev. 4; PackageVersion: Rev. K, 02/2009; PackageReference: TO-220-3-221D-03; PackageDescription: 3-Pin Flange Mount, Vertical Straight Lead, Body 10.295 x 4.7 mm, Pitch 2.54 mm; Package Type: TO-220 FULLPAK-3; Packing: Tube; RoHS: Pb-Free; Mounting Technology: Through Hole; ComponentLink1Description: Manufacturer URL; ComponentLink1URL: http://www.onsemi.com/; ComponentLink2Description: Datasheet; ComponentLink2URL: http://www.onsemi.cn/pub_link/Collateral/NDF11N50Z-D.PDF; ComponentLink3Description: Package Specification; ComponentLink3URL: http://www.onsemi.com/pub_link/Collateral/221D-03.PDF
footprint ONSC-TO-220-3-221D-03 (FM, 3-Leads, Body 10.65x4.9mm, Pitch 2.54mm)
pins: 1 G, 2 D, 3 S

## NDF11N50ZH
designator Q?
N-Channel Power MOSFET 500 V, 0.52 Ohm, 3-Pin TO-220, Pb-Free, Tube; Manufacturer: On Semiconductor; PartNumber: NDF11N50ZH; Channel Polarity: N Channel; Ciss Typ (pF): 1375; Configuration: Single; Coss Typ (pF): 166; Crss Typ (pF): 40; PD Max (W): 39; Qrr Typ (nC): 2500; V(BR)DSS Min (V): 500; VGS Max (V): 30; VGS(th) Max (V): 4.5; DatasheetVersion: Rev. 4; PackageVersion: Rev. E, 04/2013; PackageReference: TO-220-3-221AH; PackageDescription: 3-Pin Flange Mount, Vertical Straight Lead, Body 10 x 4.5 mm, Pitch 2.54 mm; Package Type: TO-220 FULLPAK-3; Packing: Tube; RoHS: Pb-Free; Mounting Technology: Through Hole; ComponentLink1Description: Manufacturer URL; ComponentLink1URL: http://www.onsemi.com/; ComponentLink2Description: Datasheet; ComponentLink2URL: http://www.onsemi.cn/pub_link/Collateral/NDF11N50Z-D.PDF; ComponentLink3Description: Package Specification; ComponentLink3URL: http://www.onsemi.com/pub_link/Collateral/221AH.PDF
footprint ONSC-TO-220-3-221AH (FM, 3-Leads, Body 10.3x4.7mm, Pitch 2.54mm)
pins: 1 G, 2 D, 3 S

## NDF60N360U1G
designator Q?
N-Channel Power MOSFET, 600 V, 360 mOhm, 3-Pin TO-220, Pb-Free, Tube; Manufacturer: On Semiconductor; PartNumber: NDF60N360U1G; Channel Polarity: N Channel; Ciss Typ (pF): 790; Configuration: Single; Coss Typ (pF): 47; Crss Typ (pF): 3; PD Max (W): 30; Qrr Typ (nC): 3600; V(BR)DSS Min (V): 600; VGS Max (V): 25; VGS(th) Max (V): 4; DatasheetVersion: Rev. 0; PackageVersion: Rev. E, 04/2013; PackageReference: TO-220-3-221AH; PackageDescription: 3-Pin Flange Mount, Vertical Straight Lead, Body 10 x 4.5 mm, Pitch 2.54 mm; Package Type: DPAK-3, IPAK-3, IPAK-4; Packing: Tube; RoHS: Pb-Free; Mounting Technology: Through Hole; ComponentLink1Description: Manufacturer URL; ComponentLink1URL: http://www.onsemi.com/; ComponentLink2Description: Datasheet; ComponentLink2URL: http://www.onsemi.com/pub_link/Collateral/NDF60N360U1-D.PDF; ComponentLink3Description: Package Specification; ComponentLink3URL: http://www.onsemi.com/pub_link/Collateral/221AH.PDF
footprint ONSC-TO-220-3-221AH (FM, 3-Leads, Body 10.3x4.7mm, Pitch 2.54mm)
pins: 1 G, 2 D, 3 S

## NDT01N60T1G
designator Q?
N-Channel Power MOSFET, 600 V, 8.5 Ohm, 4-Pin SOT-223, Pb-Free, Tape and Reel; Manufacturer: On Semiconductor; PartNumber: NDT01N60T1G; Channel Polarity: N Channel; Ciss Typ (pF): 160; Configuration: Single; Coss Typ (pF): 22; Crss Typ (pF): 4; PD Max (W): 2.5; Qrr Typ (nC): 288; V(BR)DSS Min (V): 600; VGS Max (V): 30; VGS(th) Max (V): 3.7; DatasheetVersion: Rev. 2; PackageVersion: Rev. N, 08/2009; PackageReference: SOT-223-4-318E-04; PackageDescription: 4-Pin Small Outline Transistor, Body 6.5 x 3.5 mm, Pitch 2.3 mm; Package Type: SOT-223-4 / TO-261-4; Packing: Tape and Reel; RoHS: Pb-Free; Mounting Technology: Surface Mount; ComponentLink1Description: Manufacturer URL; ComponentLink1URL: http://www.onsemi.com/; ComponentLink2Description: Datasheet; ComponentLink2URL: http://www.onsemi.cn/pub_link/Collateral/NDD01N60-D.PDF; ComponentLink3Description: Package Specification; ComponentLink3URL: http://www.onsemi.com/pub_link/Collateral/318E-04.PDF
footprint ONSC-SOT-223-4-318E-04_V (SOT223, 4-Leads, Body 6.5x3.5mm, Pitch 2.3mm)
pins: 1 G, 2 D, 3 S, 4 D
text: 2, 4

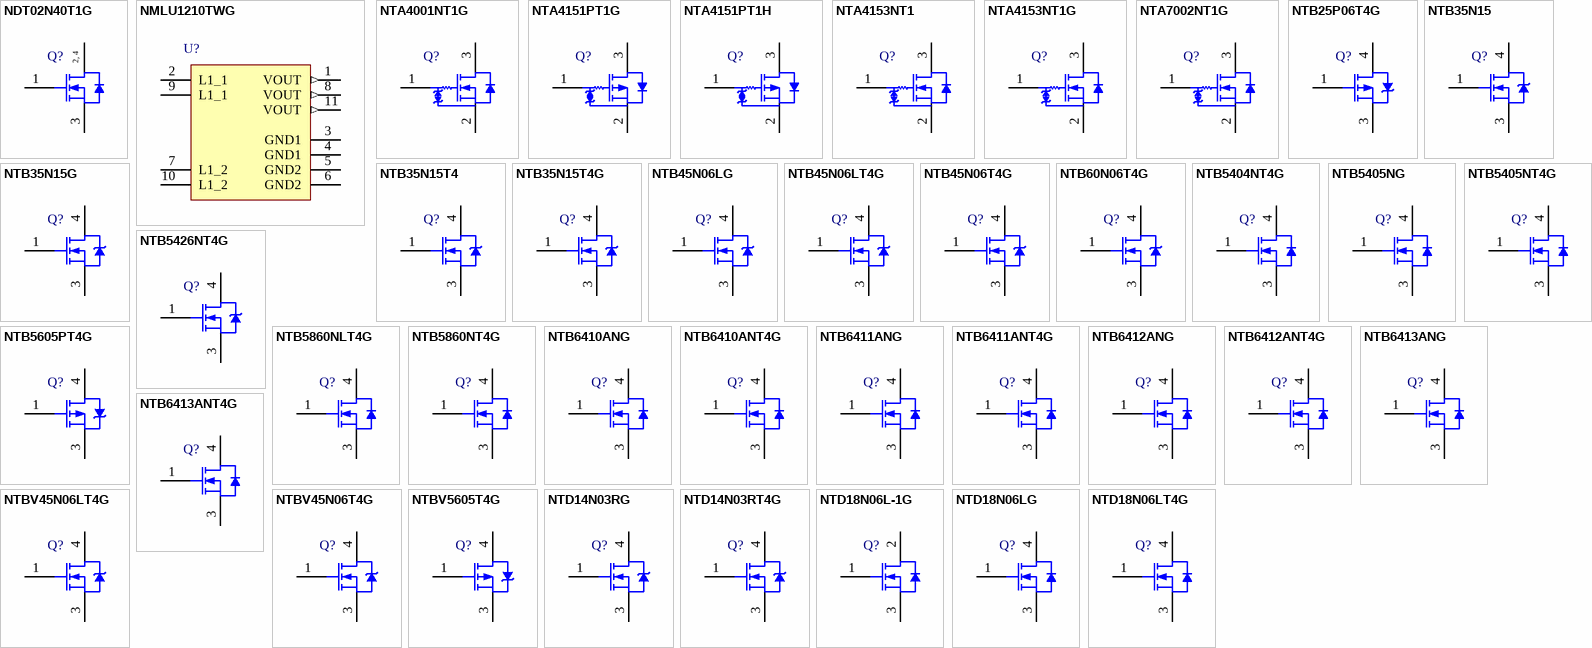
[diagram p9: symbols NDT02N40T1G to NTD18N06LT4G]

## NDT02N40T1G
designator Q?
N-Channel Power MOSFET, 400 V, 5.5 Ohm, 4-Pin SOT-223, Pb-Free, Tape and Reel; Manufacturer: On Semiconductor; PartNumber: NDT02N40T1G; Channel Polarity: N Channel; Ciss Typ (pF): 121; Configuration: Single; Coss Typ (pF): 16; Crss Typ (pF): 3; PD Max (W): 2; Qrr Typ (nC): 260; V(BR)DSS Min (V): 400; VGS Max (V): 20; DatasheetVersion: Rev. 3; PackageVersion: Rev. N, 08/2009; PackageReference: SOT-223-4-318E-04; PackageDescription: 4-Pin Small Outline Transistor, Body 6.5 x 3.5 mm, Pitch 2.3 mm; Supplier 1: Newark; Supplier Part Number 1: 97W6248; Supplier 2: Mouser; Supplier Part Number 2: 863-NDT02N40T1G; Package Type: SOT-223-4 / TO-261-4; Packing: Tape and Reel; RoHS: Pb-Free; VGS(th) Max (V): 2; Mounting Technology: Surface Mount; ComponentLink1Description: Manufacturer URL; ComponentLink1URL: http://www.onsemi.com/; ComponentLink2Description: Datasheet; ComponentLink2URL: http://www.onsemi.com/pub_link/Collateral/NDD02N40-D.PDF; ComponentLink3Description: Package Specification; ComponentLink3URL: http://www.onsemi.com/pub_link/Collateral/318E-04.PDF
footprint ONSC-SOT-223-4-318E-04_V (SOT223, 4-Leads, Body 6.5x3.5mm, Pitch 2.3mm)
pins: 1 G, 2 D, 3 S, 4 D
text: 2, 4

## NMLU1210TWG
designator U?
Full Bridge Rectifier, Dual 20 V N-Channel with Dual 3.2 A Schottky Barrier Diode, 8-Pin UDFN, Pb-Free, Tape and Reel; Manufacturer: On Semiconductor; PartNumber: NMLU1210TWG; Channel Polarity: N Channel; ID Max (A): 3.2; VGS(th) Max (V): 2.2; DatasheetVersion: Rev. 1; PackageVersion: Rev. A, 09/2011; PackageReference: UDFN-8-517BS; PackageDescription: 8-Pin Small Outline No-Lead, Body 4 x 4 mm, Pitch 0.8 mm; Configuration: Dual; Package Type: UDFN-8; Packing: Tape and Reel; RoHS: Pb-Free; Mounting Technology: Surface Mount; ComponentLink1Description: Manufacturer URL; ComponentLink1URL: http://www.onsemi.com/; ComponentLink2Description: Datasheet; ComponentLink2URL: http://www.onsemi.cn/pub_link/Collateral/NMLU1210-D.PDF; ComponentLink3Description: Package Specification; ComponentLink3URL: http://www.onsemi.cn/pub_link/Collateral/517BS.PDF
footprint ONSC-UDFN-8-517BS_V (SON, 8-Leads, Body 4x4mm, Pitch 0.8mm)
pins: 1 VOUT (out), 2 L1_1, 3 GND1 (power), 4 GND1 (power), 5 GND2 (power), 6 GND2 (power), 7 L1_2, 8 VOUT (out), 9 L1_1, 10 L1_2, 11 VOUT (out)

## NTA4001NT1G
designator Q?
Small Signal MOSFET, 20 V, 238 mA, Single, N-Channel, Gate ESD Protection, 3-Pin SC75, Pb-Free, Tape and Reel; Manufacturer: On Semiconductor; PartNumber: NTA4001NT1G; Channel Polarity: N Channel; Ciss Typ (pF): 11.5; Coss Typ (pF): 10; Crss Typ (pF): 3.5; ID Max (A): 0.238; PD Max (W): 0.3; V(BR)DSS Min (V): 20; VGS(th) Max (V): 1.5; DatasheetVersion: Rev. 2; PackageVersion: Rev. F, 07/2005; PackageReference: SC-75-3-463-01; PackageDescription: 3-Pin Small Outline Transistor, Body 1.6 x 0.8 mm, Pitch 0.5 mm; Configuration: Single; Package Type: SC-75-3; Packing: Tape and Reel; RoHS: Pb-Free; VGS Max (V): 10; Mounting Technology: Surface Mount; ComponentLink1Description: Manufacturer URL; ComponentLink1URL: http://www.onsemi.com/; ComponentLink2Description: Datasheet; ComponentLink2URL: http://www.onsemi.cn/pub_link/Collateral/NTA4001N-D.PDF; ComponentLink3Description: Package Specification; ComponentLink3URL: http://www.onsemi.com/pub_link/Collateral/463-01.PDF
footprint ONSC-SC-75-3-463-01_V (SOT23, 3-Leads, Body 1.6x0.8mm, Pitch 0.5mm)
pins: 1 G, 2 S, 3 D

## NTA4151PT1G
designator Q?
Small Signal MOSFET, -20 V, -760 mA, Single P-Channel, Gate Zener, 3-Pin SC75, Pb-Free, Tape and Reel; Manufacturer: On Semiconductor; PartNumber: NTA4151PT1G; Channel Polarity: P Channel; Ciss Typ (pF): 156; Coss Typ (pF): 28; Crss Typ (pF): 18; ID Max (A): 0.76; V(BR)DSS Min (V): 20; VGS Max (V): 6; VGS(th) Max (V): 1.2; DatasheetVersion: Rev. 7; PackageVersion: Rev. F, 07/2005; PackageReference: SC-75-3-463-01; PackageDescription: 3-Pin Small Outline Transistor, Body 1.6 x 0.8 mm, Pitch 0.5 mm; Configuration: Single; Package Type: SC-75-3; Packing: Tape and Reel; RoHS: Pb-Free; Mounting Technology: Surface Mount; ComponentLink1Description: Manufacturer URL; ComponentLink1URL: http://www.onsemi.com/; ComponentLink2Description: Datasheet; ComponentLink2URL: http://www.onsemi.cn/pub_link/Collateral/NTA4151P-D.PDF; ComponentLink3Description: Package Specification; ComponentLink3URL: http://www.onsemi.com/pub_link/Collateral/463-01.PDF
footprint ONSC-SC-75-3-463-01_V (SOT23, 3-Leads, Body 1.6x0.8mm, Pitch 0.5mm)
pins: 1 G, 2 S, 3 D

## NTA4151PT1H
designator Q?
Small Signal MOSFET, -20 V, -760 mA, Single P-Channel, Gate Zener, 3-Pin SC75, Pb-Free, Tape and Reel; Manufacturer: On Semiconductor; PartNumber: NTA4151PT1H; Channel Polarity: P Channel; Ciss Typ (pF): 156; Coss Typ (pF): 28; Crss Typ (pF): 18; ID Max (A): 0.76; V(BR)DSS Min (V): 20; VGS Max (V): 6; VGS(th) Max (V): 1.2; DatasheetVersion: Rev. 7; PackageVersion: Rev. F, 07/2005; PackageReference: SC-75-3-463-01; PackageDescription: 3-Pin Small Outline Transistor, Body 1.6 x 0.8 mm, Pitch 0.5 mm; Configuration: Single; Package Type: SC-75-3; Packing: Tape and Reel; RoHS: Pb-Free; Mounting Technology: Surface Mount; ComponentLink1Description: Manufacturer URL; ComponentLink1URL: http://www.onsemi.com/; ComponentLink2Description: Datasheet; ComponentLink2URL: http://www.onsemi.cn/pub_link/Collateral/NTA4151P-D.PDF; ComponentLink3Description: Package Specification; ComponentLink3URL: http://www.onsemi.com/pub_link/Collateral/463-01.PDF
footprint ONSC-SC-75-3-463-01_V (SOT23, 3-Leads, Body 1.6x0.8mm, Pitch 0.5mm)
pins: 1 G, 2 S, 3 D

## NTA4153NT1
designator Q?
Small Signal MOSFET, 20 V, 915 mA, Single N-Channel with ESD Protection, 3-Pin SC75, Tape and Reel; Manufacturer: On Semiconductor; PartNumber: NTA4153NT1; Channel Polarity: N Channel; Ciss Typ (pF): 110; Coss Typ (pF): 16; Crss Typ (pF): 12; ID Max (A): 0.915; PD Max (W): 0.3; V(BR)DSS Min (V): 20; VGS Max (V): 6; VGS(th) Max (V): 1.1; DatasheetVersion: Rev. 5; PackageVersion: Rev. F, 07/2005; PackageReference: SC-75-3-463-01; PackageDescription: 3-Pin Small Outline Transistor, Body 1.6 x 0.8 mm, Pitch 0.5 mm; Configuration: Single; Package Type: SC-75-3; Packing: Tape and Reel; Mounting Technology: Surface Mount; ComponentLink1Description: Manufacturer URL; ComponentLink1URL: http://www.onsemi.com/; ComponentLink2Description: Datasheet; ComponentLink2URL: http://www.onsemi.cn/pub_link/Collateral/NTA4153N-D.PDF; ComponentLink3Description: Package Specification; ComponentLink3URL: http://www.onsemi.com/pub_link/Collateral/463-01.PDF
footprint ONSC-SC-75-3-463-01_V (SOT23, 3-Leads, Body 1.6x0.8mm, Pitch 0.5mm)
pins: 1 G, 2 S, 3 D

## NTA4153NT1G
designator Q?
Small Signal MOSFET, 20 V, 915 mA, Single N-Channel with ESD Protection, 3-Pin SC75, Pb-Free, Tape and Reel; Manufacturer: On Semiconductor; PartNumber: NTA4153NT1G; Channel Polarity: N Channel; Ciss Typ (pF): 110; Coss Typ (pF): 16; Crss Typ (pF): 12; ID Max (A): 0.915; PD Max (W): 0.3; V(BR)DSS Min (V): 20; VGS Max (V): 6; VGS(th) Max (V): 1.1; DatasheetVersion: Rev. 5; PackageVersion: Rev. F, 07/2005; PackageReference: SC-75-3-463-01; PackageDescription: 3-Pin Small Outline Transistor, Body 1.6 x 0.8 mm, Pitch 0.5 mm; Configuration: Single; Package Type: SC-75-3; Packing: Tape and Reel; RoHS: Pb-Free; Mounting Technology: Surface Mount; ComponentLink1Description: Manufacturer URL; ComponentLink1URL: http://www.onsemi.com/; ComponentLink2Description: Datasheet; ComponentLink2URL: http://www.onsemi.cn/pub_link/Collateral/NTA4153N-D.PDF; ComponentLink3Description: Package Specification; ComponentLink3URL: http://www.onsemi.com/pub_link/Collateral/463-01.PDF
footprint ONSC-SC-75-3-463-01_V (SOT23, 3-Leads, Body 1.6x0.8mm, Pitch 0.5mm)
pins: 1 G, 2 S, 3 D

## NTA7002NT1G
designator Q?
Small Signal MOSFET, 30 V, 154 mA, Single, N-Channel, Gate ESD Protection, 3-Pin SC75, Pb-Free, Tape and Reel; Manufacturer: On Semiconductor; PartNumber: NTA7002NT1G; Channel Polarity: N Channel; Ciss Typ (pF): 11.5; Coss Typ (pF): 10; Crss Typ (pF): 3.5; ID Max (A): 0.154; PD Max (W): 0.3; V(BR)DSS Min (V): 30; VGS(th) Max (V): 1.5; DatasheetVersion: Rev. 5; PackageVersion: Rev. F, 07/2005; PackageReference: SC-75-3-463-01; PackageDescription: 3-Pin Small Outline Transistor, Body 1.6 x 0.8 mm, Pitch 0.5 mm; Configuration: Single; Package Type: SC-75-3; Packing: Tape and Reel; RoHS: Pb-Free; VGS Max (V): 10; Mounting Technology: Surface Mount; ComponentLink1Description: Manufacturer URL; ComponentLink1URL: http://www.onsemi.com/; ComponentLink2Description: Datasheet; ComponentLink2URL: http://www.onsemi.cn/pub_link/Collateral/NTA7002N-D.PDF; ComponentLink3Description: Package Specification; ComponentLink3URL: http://www.onsemi.com/pub_link/Collateral/463-01.PDF
footprint ONSC-SC-75-3-463-01_V (SOT23, 3-Leads, Body 1.6x0.8mm, Pitch 0.5mm)
pins: 1 G, 2 S, 3 D

## NTB25P06T4G
designator Q?
Power MOSFET, -60 V, -27.5 A, P-Channel, 3-Pin D2PAK, Pb-Free, Tape and Reel; Manufacturer: On Semiconductor; PartNumber: NTB25P06T4G; Channel Polarity: P Channel; Ciss Typ (pF): 1200; Configuration: Single; Coss Typ (pF): 345; Crss Typ (pF): 90; ID Max (A): 27.5; PD Max (W): 120; Qrr Typ (nC): 200; V(BR)DSS Min (V): 60; VGS Max (V): 15; VGS(th) Max (V): 4; DatasheetVersion: Rev. 4; PackageVersion: Rev. K, 09/2008; PackageReference: D2PAK-3-418B-04; PackageDescription: 3-Pin Flange Mount, Body 9.145 x 9.97 mm, Pitch 2.54 mm; Package Type: D2PAK-3; Packing: Tape and Reel; RoHS: Pb-Free; Mounting Technology: Surface Mount; ComponentLink1Description: Manufacturer URL; ComponentLink1URL: http://www.onsemi.com/; ComponentLink2Description: Datasheet; ComponentLink2URL: http://www.onsemi.cn/pub_link/Collateral/NTB25P06-D.PDF; ComponentLink3Description: Package Specification; ComponentLink3URL: http://www.onsemi.com/pub_link/Collateral/418B-04.PDF
footprint ONSC-D2PAK-3-418B-04_V (DPAK, 3-Leads, Body 9.97x9.145mm, Pitch 2.54mm)
pins: 1 G, 3 S, 4 D

## NTB35N15
designator Q?
Power MOSFET, 37 A, 150 V, N-Channel Enhancement-Mode, 3-Pin D2PAK, Tube; Manufacturer: On Semiconductor; PartNumber: NTB35N15; Channel Polarity: N Channel; Ciss Typ (pF): 2275; Configuration: Single; Coss Typ (pF): 450; Crss Typ (pF): 90; Qrr Typ (nC): 1140; V(BR)DSS Min (V): 150; VGS Max (V): 20; VGS(th) Max (V): 4; DatasheetVersion: Rev. 5; PackageVersion: Rev. K, 09/2008; PackageReference: D2PAK-3-418B-04; PackageDescription: 3-Pin Flange Mount, Body 9.145 x 9.97 mm, Pitch 2.54 mm; Package Type: D2PAK-3; Packing: Tube; Mounting Technology: Surface Mount; ComponentLink1Description: Manufacturer URL; ComponentLink1URL: http://www.onsemi.com/; ComponentLink2Description: Datasheet; ComponentLink2URL: http://www.onsemi.cn/pub_link/Collateral/NTB35N15-D.PDF; ComponentLink3Description: Package Specification; ComponentLink3URL: http://www.onsemi.com/pub_link/Collateral/418B-04.PDF
footprint ONSC-D2PAK-3-418B-04_V (DPAK, 3-Leads, Body 9.97x9.145mm, Pitch 2.54mm)
pins: 1 G, 3 S, 4 D

## NTB35N15G
designator Q?
Power MOSFET, 37 A, 150 V, N-Channel Enhancement-Mode, 3-Pin D2PAK, Pb-Free, Tube; Manufacturer: On Semiconductor; PartNumber: NTB35N15G; Channel Polarity: N Channel; Ciss Typ (pF): 2275; Configuration: Single; Coss Typ (pF): 450; Crss Typ (pF): 90; Qrr Typ (nC): 1140; V(BR)DSS Min (V): 150; VGS Max (V): 20; VGS(th) Max (V): 4; DatasheetVersion: Rev. 5; PackageVersion: Rev. K, 09/2008; PackageReference: D2PAK-3-418B-04; PackageDescription: 3-Pin Flange Mount, Body 9.145 x 9.97 mm, Pitch 2.54 mm; Package Type: D2PAK-3; Packing: Tube; RoHS: Pb-Free; Mounting Technology: Surface Mount; ComponentLink1Description: Manufacturer URL; ComponentLink1URL: http://www.onsemi.com/; ComponentLink2Description: Datasheet; ComponentLink2URL: http://www.onsemi.cn/pub_link/Collateral/NTB35N15-D.PDF; ComponentLink3Description: Package Specification; ComponentLink3URL: http://www.onsemi.com/pub_link/Collateral/418B-04.PDF
footprint ONSC-D2PAK-3-418B-04_V (DPAK, 3-Leads, Body 9.97x9.145mm, Pitch 2.54mm)
pins: 1 G, 3 S, 4 D